# EAGLE library part DF11CZ-24DP (library con-Hirose)
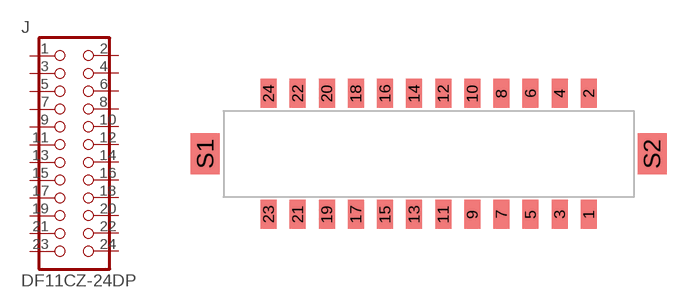
[diagram p0: symbol with the pads of DF11CZ-24DP; footprint DF11CZ-24DP]

Designator prefix J

## DF11CZ-24DP  [DF11CZ-24DP]
1  1  pas
2  2  pas
3  3  pas
4  4  pas
5  5  pas
6  6  pas
7  7  pas
8  8  pas
9  9  pas
10  10  pas
11  11  pas
12  12  pas
13  13  pas
14  14  pas
15  15  pas
16  16  pas
17  17  pas
18  18  pas
19  19  pas
20  20  pas
21  21  pas
22  22  pas
23  23  pas
24  24  pas

## Footprint DF11CZ-24DP (pad centres in mm)
smd 1.1 x 2: 1 11,-4.15; 2 11,4.15; 3 9,-4.15; 4 9,4.15; 5 7,-4.15; 6 7,4.15; 7 5,-4.15; 8 5,4.15; 9 3,-4.15; 10 3,4.15; 11 1,-4.15; 12 1,4.15; 13 -1,-4.15; 14 -1,4.15; 15 -3,-4.15; 16 -3,4.15; 17 -5,-4.15; 18 -5,4.15; 19 -7,-4.15; 20 -7,4.15; 21 -9,-4.15; 22 -9,4.15; 23 -11,-4.15; 24 -11,4.15
smd 2 x 2.8: S1 -15.35,0; S2 15.35,0